# EAGLE library part DS18B20U+ (library SamacSys_Parts)
Board Mount Temperature Sensors Prgmble Resolution 1-Wire Parasite Pwr Source: Datasheet <https://datasheets.maximintegrated.com/en/ds/DS18B20.pdf>
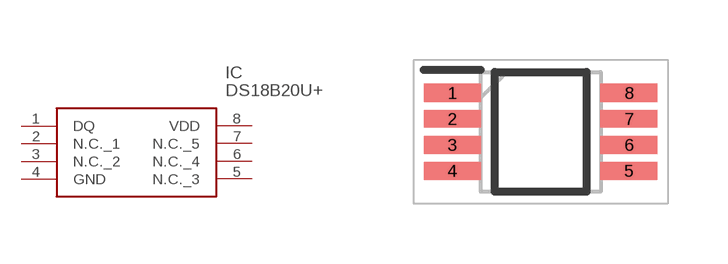
[diagram p1: symbol with the pads of SOP65P490X110-8N; footprint SOP65P490X110-8N]

Designator prefix IC

## DS18B20U+ (Description: Board Mount Temperature Sensors Prgmble Resolution 1-Wire Parasite Pwr; Height: 1.1mm; Manufacturer_Name: Maxim Integrated; Manufacturer_Part_Number: DS18B20U+; Mouser_Part_Number: 700-DS18B20U; Mouser_Price-Stock: https://www.mouser.co.uk/ProductDetail/Maxim-Integrated/DS18B20U%2b?qs=7H2Jq%252ByxpJLxAEcPXZtrFQ%3D%3D)  [SOP65P490X110-8N]
1  DQ
2  N.C._1
3  N.C._2
4  GND
5  N.C._3
6  N.C._4
7  N.C._5
8  VDD

## Footprint SOP65P490X110-8N (pad centres in mm)
21-0036
smd 1.425 x 0.45: 1 -2.212,0.975; 2 -2.212,0.325; 3 -2.212,-0.325; 4 -2.212,-0.975; 5 2.212,-0.975; 6 2.212,-0.325; 7 2.212,0.325; 8 2.212,0.975